# EAGLE library part LT3060ET (library STAC)
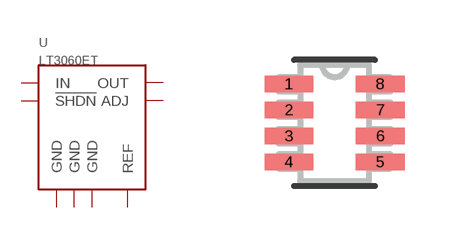
[diagram p9: symbol with the pads of TSOT-23_TS8; footprint TSOT-23_TS8]

Designator prefix U

## LT3060ET  [TSOT-23_TS8]
1  !SHDN
2  GND
3  GND
4  GND
5  IN
6  OUT
7  ADJ
8  REF

## Footprint TSOT-23_TS8 (pad centres in mm)
smd 1.219 x 0.406: 1 -1.143,0.975; 2 -1.143,0.325; 3 -1.143,-0.325; 4 -1.143,-0.975; 5 1.143,-0.975; 6 1.143,-0.325; 7 1.143,0.325; 8 1.143,0.975